# Altium schematic symbol library Schlib.SchLib: 1 symbol
Pins are listed as number, name and electrical type; pins without a type are passive.

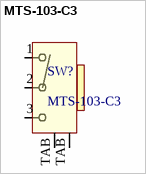
[diagram p0: symbol MTS-103-C3]

## MTS-103-C3
designator SW?
MTS-103-C3 ON-ON TUMBLER RIGHT ANGLE
footprint MTS-1xx-C3 (MTS-1xx-C3 TUMBLER RIGHT ANGLE)
pins: 1, 2, 3, TAB, TAB